# EAGLE library part RJHSE-5081 (library RJHSE-5081)
connector, mod jack, rt angle pcb, shielded, led1-g, led2-y, single port, rj-45 8 cont
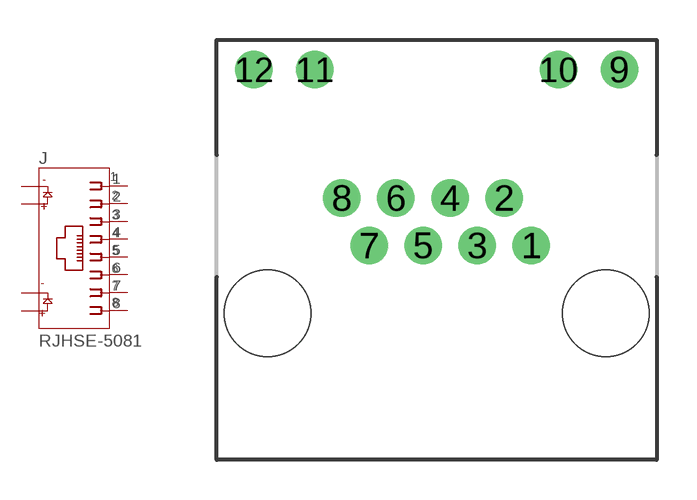
[diagram p0: symbol with the pads of RJHSE-5081; footprint RJHSE-5081]

Designator prefix J

## RJHSE-5081 (AVAILABILITY: Unavailable; DESCRIPTION: connector, mod jack, rt angle pcb, shielded, led1-g, led2-y, single port, rj-45 8 cont; MF: Amphenol ICC; MP: RJHSE-5381; PACKAGE: None; PRICE: None)  [RJHSE-5081]
1  1  pas
2  2  pas
3  3  pas
4  4  pas
5  5  pas
6  6  pas
7  7  pas
8  8  pas
9  9  pas
10  10  pas
11  11  pas
12  12  pas

## Footprint RJHSE-5081 (pad centres in mm)
drill 0.9: 1 3.55,2.54; 2 2.53,4.32; 3 1.52,2.54; 4 0.5,4.32; 5 -0.51,2.54; 6 -1.53,4.32; 7 -2.54,2.54; 8 -3.56,4.32; 9 6.86,9.14; 10 4.57,9.14; 11 -4.57,9.14; 12 -6.86,9.14
hole 3.25 at 6.35,0
hole 3.25 at -6.35,0